# EAGLE library part STM32F10X (library ARM)
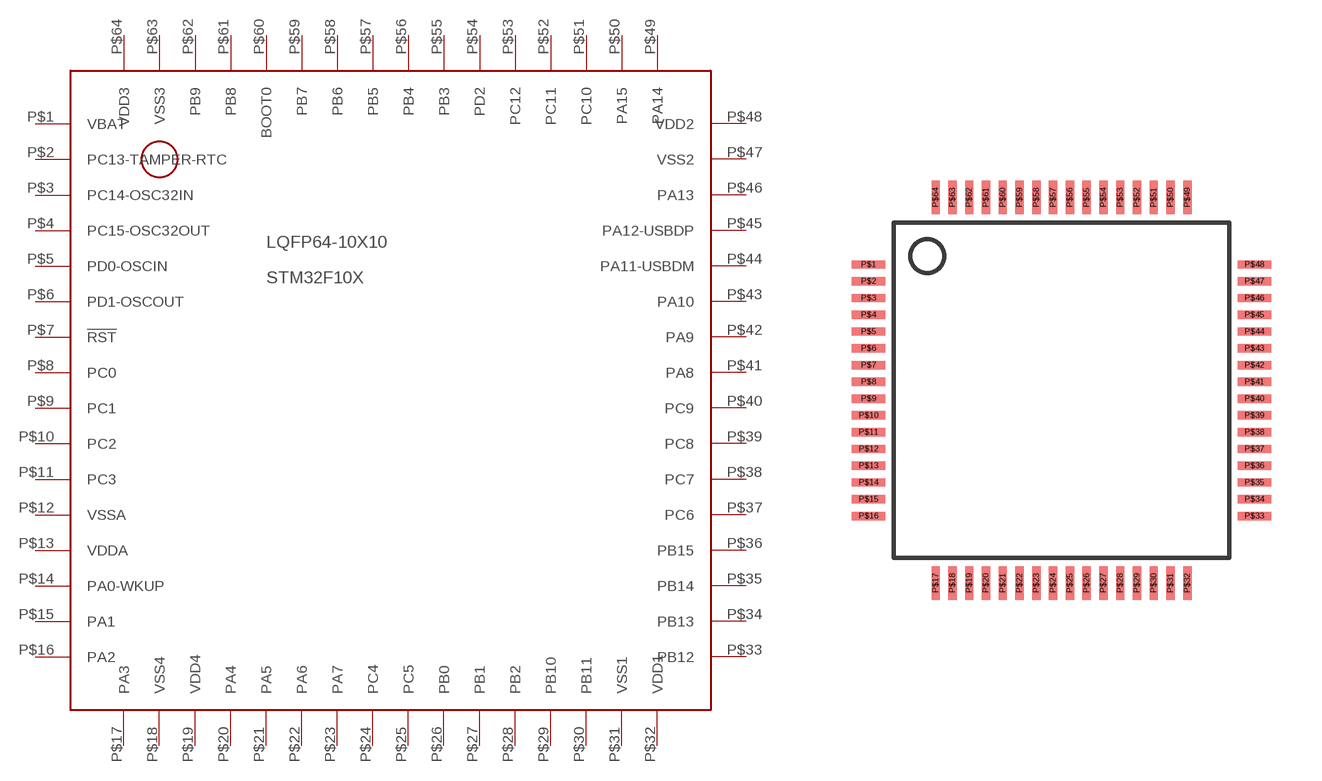
[diagram p0: symbol with the pads of LQFP64; footprint LQFP64]

Designator prefix LQFP64-10X10

## STM32F10X  [LQFP64]
P$1  VBAT  pwr
P$2  PC13-TAMPER-RTC
P$3  PC14-OSC32IN
P$4  PC15-OSC32OUT
P$5  PD0-OSCIN
P$6  PD1-OSCOUT
P$7  !RST
P$8  PC0
P$9  PC1
P$10  PC2
P$11  PC3
P$12  VSSA  pwr
P$13  VDDA  pwr
P$14  PA0-WKUP
P$15  PA1
P$16  PA2
P$17  PA3
P$18  VSS4  pwr
P$19  VDD4  pwr
P$20  PA4
P$21  PA5
P$22  PA6
P$23  PA7
P$24  PC4
P$25  PC5
P$26  PB0
P$27  PB1
P$28  PB2
P$29  PB10
P$30  PB11
P$31  VSS1  pwr
P$32  VDD1  pwr
P$33  PB12
P$34  PB13
P$35  PB14
P$36  PB15
P$37  PC6
P$38  PC7
P$39  PC8
P$40  PC9
P$41  PA8
P$42  PA9
P$43  PA10
P$44  PA11-USBDM
P$45  PA12-USBDP
P$46  PA13
P$47  VSS2  pwr
P$48  VDD2  pwr
P$49  PA14
P$50  PA15
P$51  PC10
P$52  PC11
P$53  PC12
P$54  PD2
P$55  PB3
P$56  PB4
P$57  PB5
P$58  PB6
P$59  PB7
P$60  BOOT0
P$61  PB8
P$62  PB9
P$63  VSS3  pwr
P$64  VDD3  pwr

## Footprint LQFP64 (pad centres in mm)
smd 1 x 0.25: P$1 -1.25,-0.75; P$2 -1.25,-1.25; P$3 -1.25,-1.75; P$4 -1.25,-2.25; P$5 -1.25,-2.75; P$6 -1.25,-3.25; P$7 -1.25,-3.75; P$8 -1.25,-4.25; P$9 -1.25,-4.75; P$10 -1.25,-5.25; P$11 -1.25,-5.75; P$12 -1.25,-6.25; P$13 -1.25,-6.75; P$14 -1.25,-7.25; P$15 -1.25,-7.75; P$16 -1.25,-8.25; P$33 10.25,-8.25; P$34 10.25,-7.75; P$35 10.25,-7.25; P$36 10.25,-6.75; P$37 10.25,-6.25; P$38 10.25,-5.75; P$39 10.25,-5.25; P$40 10.25,-4.75; P$41 10.25,-4.25; P$42 10.25,-3.75; P$43 10.25,-3.25; P$44 10.25,-2.75; P$45 10.25,-2.25; P$46 10.25,-1.75; P$47 10.25,-1.25; P$48 10.25,-0.75
smd 0.25 x 1: P$17 0.75,-10.25; P$18 1.25,-10.25; P$19 1.75,-10.25; P$20 2.25,-10.25; P$21 2.75,-10.25; P$22 3.25,-10.25; P$23 3.75,-10.25; P$24 4.25,-10.25; P$25 4.75,-10.25; P$26 5.25,-10.25; P$27 5.75,-10.25; P$28 6.25,-10.25; P$29 6.75,-10.25; P$30 7.25,-10.25; P$31 7.75,-10.25; P$32 8.25,-10.25; P$49 8.25,1.25; P$50 7.75,1.25; P$51 7.25,1.25; P$52 6.75,1.25; P$53 6.25,1.25; P$54 5.75,1.25; P$55 5.25,1.25; P$56 4.75,1.25; P$57 4.25,1.25; P$58 3.75,1.25; P$59 3.25,1.25; P$60 2.75,1.25; P$61 2.25,1.25; P$62 1.75,1.25; P$63 1.25,1.25; P$64 0.75,1.25